# EAGLE library part 61303021821 (library Wurth_Elektronik2)
WR-PHD 2.54mm Dual Socket Header, 30 Pins =>Code : Con_BTB_SHD_2.54_2_61303021821 <http://katalog.we-online.de/media/images/eican/Con_BTB_SHD_2.54_2_6130xx21821_pf2.jpg> Details see: http://katalog.we-online.de/en/em/613_0xx_218_21 Created 2014-05-29, Karrer Zheng 2014 (C) Würth Elektronik
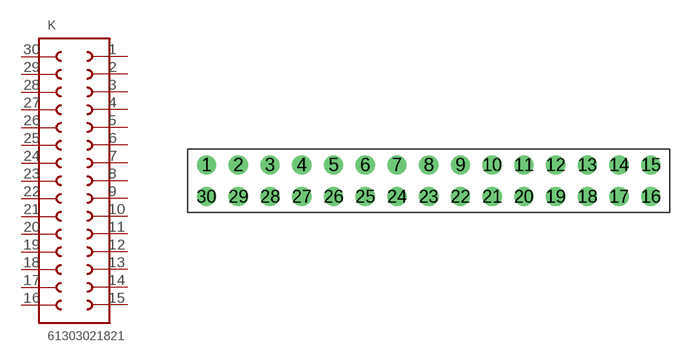
[diagram p121: symbol with the pads of 61303021821; footprint 61303021821]

Designator prefix K

## 61303021821  [61303021821]
1  1  pas
2  2  pas
3  3  pas
4  4  pas
5  5  pas
6  6  pas
7  7  pas
8  8  pas
9  9  pas
10  10  pas
11  11  pas
12  12  pas
13  13  pas
14  14  pas
15  15  pas
16  16  pas
17  17  pas
18  18  pas
19  19  pas
20  20  pas
21  21  pas
22  22  pas
23  23  pas
24  24  pas
25  25  pas
26  26  pas
27  27  pas
28  28  pas
29  29  pas
30  30  pas

## Footprint 61303021821 (pad centres in mm)
WR-PHD 2.54mm Dual Socket Header, 30 Pins
drill 1.02: 1 -19.05,1.27; 2 -16.51,1.27; 3 -13.97,1.27; 4 -11.43,1.27; 5 -8.89,1.27; 6 -6.35,1.27; 7 -3.81,1.27; 8 -1.27,1.27; 9 1.27,1.27; 10 3.81,1.27; 11 6.35,1.27; 12 8.89,1.27; 13 11.43,1.27; 14 13.97,1.27; 15 16.51,1.27; 16 16.51,-1.27; 17 13.97,-1.27; 18 11.43,-1.27; 19 8.89,-1.27; 20 6.35,-1.27; 21 3.81,-1.27; 22 1.27,-1.27; 23 -1.27,-1.27; 24 -3.81,-1.27; 25 -6.35,-1.27; 26 -8.89,-1.27; 27 -11.43,-1.27; 28 -13.97,-1.27; 29 -16.51,-1.27; 30 -19.05,-1.27